# Altium footprint library CAPC3528.PcbLib: 1 footprints
Each footprint in its own frame and in the unit in brackets; x right, y up, seen from the top. Pads: shape width x height; smd on the part's side, far side on the other; paste and mask are expansions set on the pad; w line width, h text height; cw(c..) or ccw(c..) is an arc to the next point about the centre after c.
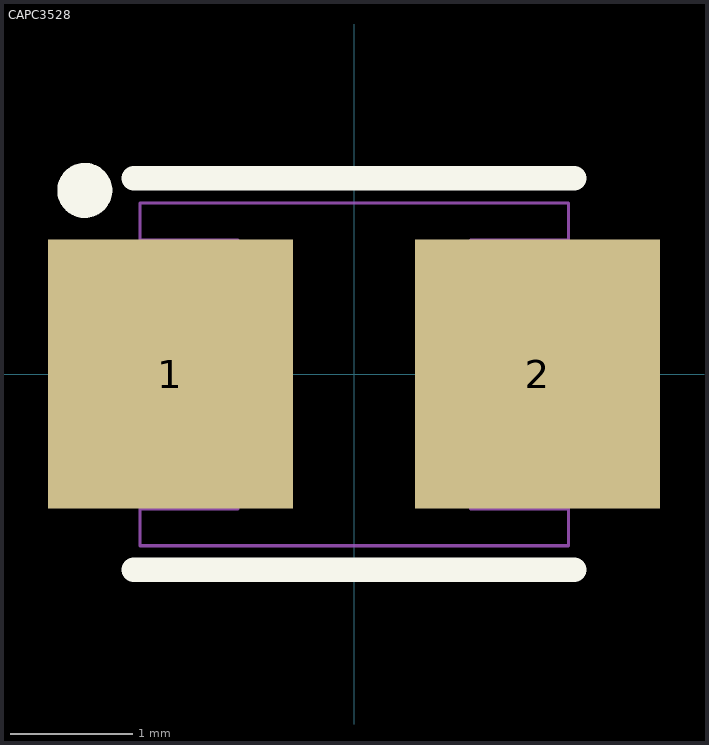
[diagram p0: the footprint, top view; thin cyan lines are the x and y axes]

## CAPC3528 [mm]
pads (2):
  rect 2x2.2 smd: 1(-1.5,0) 2(1.5,0)
Top Overlay:
  circle w0.25: c-2.2,1.5 r0.1
  lines w0.2: -1.8,-1.6 1.8,-1.6 ; -1.8,1.6 1.8,1.6
FabNotes:
  text ".Comment" at -2.227,0.025 h0.2
Design Information:
  text ".Designator" at -2.227,0.025 h0.2
Mechanical 15:
  lines w0.025: -1.748,-1.104 -0.948,-1.104 -0.948,1.096 -1.748,1.096 ; 1.752,-1.104 0.952,-1.104 0.952,1.096 1.752,1.096 ; -1.748,-1.404 1.752,-1.404 1.752,1.396 -1.748,1.396 -1.748,-1.404